# Altium schematic symbol library 6.6x7.1mm_SMD_Inductor.SchLib: 1 symbol
Pins are listed as number, name and electrical type; pins without a type are passive.

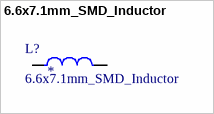
[diagram p0: symbol 6.6x7.1mm_SMD_Inductor]

## 6.6x7.1mm_SMD_Inductor
designator L?
6.6x7.1mm_SMD_Inductor ROHS; LCSC: *
footprint 6.6x7.1mm_SMD_Inductor
pins: 1, 2